# Altium footprint library footprints_library_legacy.pcblib: 35 footprints (part 3 of 3)
Each footprint in its own frame and in the unit in brackets; x right, y up, seen from the top. Pads: shape width x height; smd on the part's side, far side on the other; paste and mask are expansions set on the pad; w line width, h text height; cw(c..) or ccw(c..) is an arc to the next point about the centre after c.
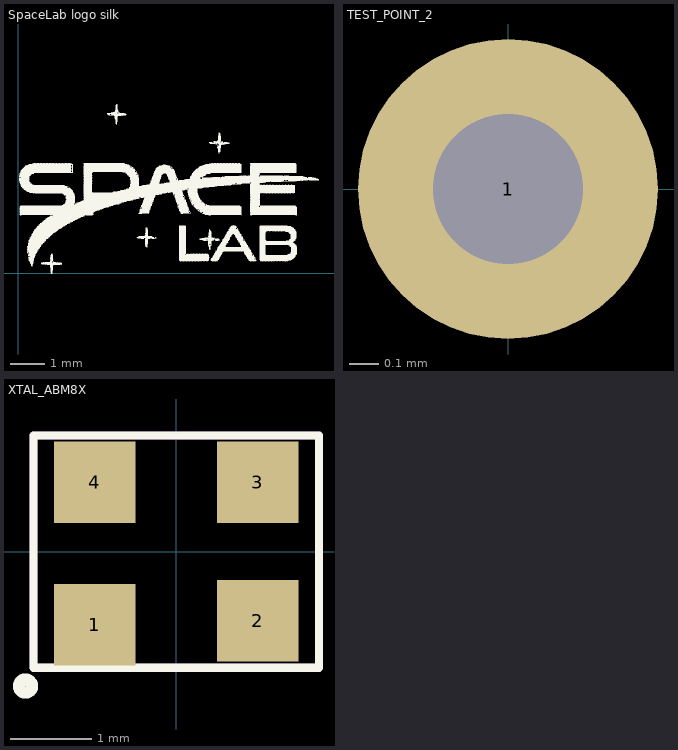
[diagram p2: the footprints below, top view; thin cyan lines are the x and y axes]

## SpaceLab logo silk [mm]
Top Overlay:
  drawing of 18 lines, arcs and shapes, not listed

## TEST_POINT_2 [mil]
height 122.05
pads (1):
  round 40 hole 20: 1(0,0)

## XTAL_ABM8X [mm]
height 3.1
pads (4):
  rect 1x1 smd: 1(-1,-0.9) 2(1,-0.85) 3(1,0.85) 4(-1,0.85)
Top Overlay:
  circle w0.15: c-1.85,-1.65 r0.08
  lines w0.1: -1.75,-1.425 1.75,-1.425 1.75,1.425 -1.75,1.425 -1.75,-1.425
Mechanical 15:
  circle w0.254: c-0.925,-0.85 r0.292
  lines w0.1: -1.75,-1.425 -1.75,1.425 1.75,1.425 1.75,-1.425 -1.75,-1.425
  text ".Designator" at -1.075,-0.05 h0.5
3D body "ABM8X.STEP": height 0.6, standoff 0, extent -1.6,-1.225 1.6,1.275